# EAGLE library part X__STECKERLEISTE_8 (library ++Bedrahtet)
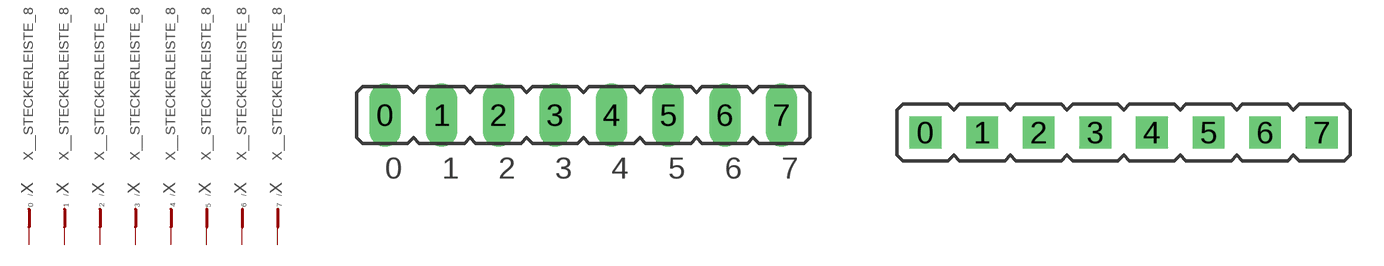
[diagram p0: symbol with the pads of STECKERLEISTE_8; footprints STECKERLEISTE_8, STECKL_8]

Designator prefix X; gates 0=STIFTPIN 1=STIFTPIN 2=STIFTPIN 3=STIFTPIN 4=STIFTPIN 5=STIFTPIN 6=STIFTPIN 7=STIFTPIN

## X__STECKERLEISTE_8  [STECKERLEISTE_8]
0  0:P
1  1:P
2  2:P
3  3:P
4  4:P
5  5:P
6  6:P
7  7:P

## X__STECKERLEISTE_8SQ  [STECKL_8]
Pads as for STECKERLEISTE_8

## Footprint STECKERLEISTE_8 (pad centres in mm)
drill 0.914 long: 0 0,0; 1 2.54,0; 2 5.08,0; 3 7.62,0; 4 10.16,0; 5 12.7,0; 6 15.24,0; 7 17.78,0

## Footprint STECKL_8 (pad centres in mm)
drill 0.914 square: 0 0,0; 1 2.54,0; 2 5.08,0; 3 7.62,0; 4 10.16,0; 5 12.7,0; 6 15.24,0; 7 17.78,0